# EAGLE library part 61301825721 (library Wurth_Elektronik_Electromechanic_Board_to_Board_Connectors_rev16a)
WR-PHD 2.54mm Dual Socket Header Bottom Entry, 18 Pins =>Code : Con_BTB_SHD_2.54_2_61301825721 <http://katalog.we-online.de/media/images/eican/Con_BTB_SHD_2.54_2_6130xx25721_pf2.jpg> Details see: http://katalog.we-online.de/en/em/613_0xx_257_21 Created 2014-05-30, Karrer Zheng 2014 (C) Würth Elektronik
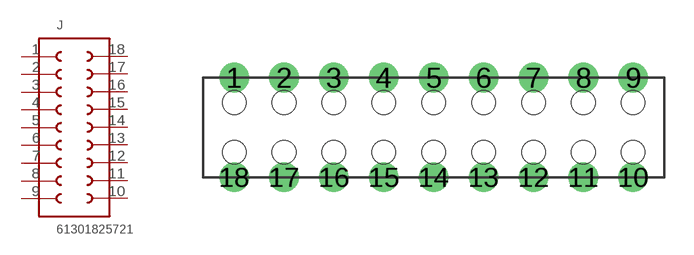
[diagram p160: symbol with the pads of 61301825721; footprint 61301825721]

Designator prefix J

## 61301825721  [61301825721]
1  1  pas
2  2  pas
3  3  pas
4  4  pas
5  5  pas
6  6  pas
7  7  pas
8  8  pas
9  9  pas
10  10  pas
11  11  pas
12  12  pas
13  13  pas
14  14  pas
15  15  pas
16  16  pas
17  17  pas
18  18  pas

## Footprint 61301825721 (pad centres in mm)
WR-PHD 2.54mm Dual Socket Header Bottom Entry, 18 Pins
drill 1: 1 -11.43,2.54; 2 -8.89,2.54; 3 -6.35,2.54; 4 -3.81,2.54; 5 -1.27,2.54; 6 1.27,2.54; 7 3.81,2.54; 8 6.35,2.54; 9 8.89,2.54; 10 8.89,-2.54; 11 6.35,-2.54; 12 3.81,-2.54; 13 1.27,-2.54; 14 -1.27,-2.54; 15 -3.81,-2.54; 16 -6.35,-2.54; 17 -8.89,-2.54; 18 -11.43,-2.54
hole 1.2 at -11.43,1.27
hole 1.2 at -8.89,1.27
hole 1.2 at -6.35,1.27
hole 1.2 at -3.81,1.27
hole 1.2 at -1.27,1.27
hole 1.2 at 1.27,1.27
hole 1.2 at 3.81,1.27
hole 1.2 at 6.35,1.27
hole 1.2 at 8.89,1.27
hole 1.2 at 8.89,-1.27
hole 1.2 at 6.35,-1.27
hole 1.2 at 3.81,-1.27
hole 1.2 at 1.27,-1.27
hole 1.2 at -1.27,-1.27
hole 1.2 at -3.81,-1.27
hole 1.2 at -6.35,-1.27
hole 1.2 at -8.89,-1.27
hole 1.2 at -11.43,-1.27